# Altium schematic symbol library SCH - INTERFACE - CAN - MAXIM MAX3301xE.SCHLIB: 2 symbols
Pins are listed as number, name and electrical type; pins without a type are passive.

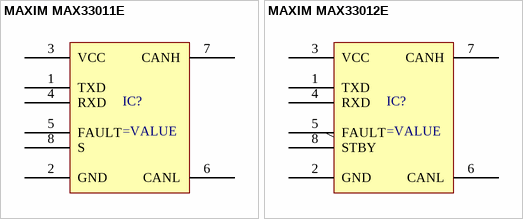
[diagram p0: symbols MAXIM MAX33011E to MAXIM MAX33012E]

## MAXIM MAX33011E
designator IC?
pins: 1 TXD, 2 GND, 3 VCC, 4 RXD, 5 FAULT, 6 CANL, 7 CANH, 8 S

## MAXIM MAX33012E
designator IC?
pins: 1 TXD, 2 GND, 3 VCC, 4 RXD, 5 FAULT (oc), 6 CANL, 7 CANH, 8 STBY